# Altium footprint library DF40C-50DP-0P4V_51_.PcbLib: 3 footprints
Each footprint in its own frame and in the unit in brackets; x right, y up, seen from the top. Pads: shape width x height; smd on the part's side, far side on the other; paste and mask are expansions set on the pad; w line width, h text height; cw(c..) or ccw(c..) is an arc to the next point about the centre after c.
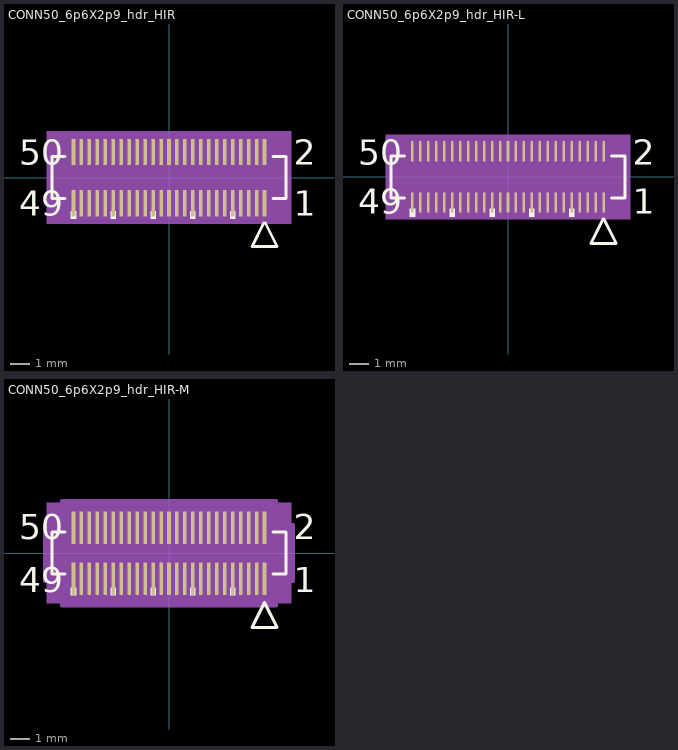
[diagram p0: the footprints below, top view; thin cyan lines are the x and y axes]

## CONN50_6p6X2p9_hdr_HIR [mil]
pads (50):
  rect 7x52 smd paste+0 mask+0: 1(188.98,-50.5) 2(188.98,50.5) 3(173.23,-50.5) 4(173.23,50.5) 5(157.48,-50.5) 6(157.48,50.5) 7(141.73,-50.5) 8(141.73,50.5) 9(125.98,-50.5) 10(125.98,50.5) 11(110.24,-50.5) 12(110.24,50.5) 13(94.49,-50.5) 14(94.49,50.5) 15(78.74,-50.5) 16(78.74,50.5) 17(62.99,-50.5) 18(62.99,50.5) 19(47.24,-50.5) 20(47.24,50.5) 21(31.5,-50.5) 22(31.5,50.5) 23(15.75,-50.5) 24(15.75,50.5) 25(0,-50.5) 26(0,50.5) 27(-15.75,-50.5) 28(-15.75,50.5) 29(-31.5,-50.5) 30(-31.5,50.5) 31(-47.24,-50.5) 32(-47.24,50.5) 33(-62.99,-50.5) 34(-62.99,50.5) 35(-78.74,-50.5) 36(-78.74,50.5) 37(-94.49,-50.5) 38(-94.49,50.5) 39(-110.24,-50.5) 40(-110.24,50.5) 41(-125.98,-50.5) 42(-125.98,50.5) 43(-141.73,-50.5) 44(-141.73,50.5) 45(-157.48,-50.5) 46(-157.48,50.5) 47(-173.23,-50.5) 48(-173.23,50.5) 49(-188.98,-50.5) 50(-188.98,50.5)
Top Overlay:
  region: 130.98,-66.5 120.98,-66.5 120.98,-81.5 130.98,-81.5
  region: 52.24,-66.5 42.24,-66.5 42.24,-81.5 52.24,-81.5
  region: -26.5,-66.5 -36.5,-66.5 -36.5,-81.5 -26.5,-81.5
  region: -105.24,-66.5 -115.24,-66.5 -115.24,-81.5 -105.24,-81.5
  region: -183.98,-66.5 -193.98,-66.5 -193.98,-81.5 -183.98,-81.5
  lines w6: -205.58,-41.5 -231.77,-41.5 -231.77,41.5 -205.58,41.5 ; 187.48,-89.6 163.98,-136.6 213.98,-136.6 190.48,-89.6 ; 205.58,-41.5 231.77,-41.5 231.77,41.5 205.58,41.5
  text "2" at 246.77,25.5 h50
  text "1" at 246.77,-75.5 h50
  text "50" at -296.77,25.5 h50
  text "49" at -296.77,-75.5 h50
Mechanical 5:
  region: 241.77,-91.5 -241.77,-91.5 -241.77,91.5 241.77,91.5
Mechanical 13:
  lines w1: -226.77,-36.5 226.77,-36.5 226.77,36.5 -226.77,36.5 -226.77,-36.5 ; 163.98,-136.6 188.98,-86.6 213.98,-136.6 163.98,-136.6
  text "2" at 246.77,25.5 h50
  text "1" at 246.77,-75.5 h50
  text "50" at -296.77,25.5 h50
  text "49" at -296.77,-75.5 h50
Mechanical 15:
  region: -202.48,-46.5 -236.77,-46.5 -236.77,46.5 -202.48,46.5 -202.48,86.5 202.48,86.5 202.48,46.5 236.77,46.5 236.77,-46.5 202.48,-46.5 202.48,-86.5 -202.48,-86.5
  region: 226.77,-36.5 -226.77,-36.5 -226.77,36.5 226.77,36.5
  lines w6: -236.77,-46.5 -236.77,46.5 -202.48,46.5 -202.48,86.5 202.48,86.5 202.48,46.5 236.77,46.5 236.77,-46.5 202.48,-46.5 202.48,-86.5 -202.48,-86.5 -202.48,-46.5 -236.77,-46.5
3D body "CONN50_6p6X2p9_hdr_HIR.step": height 50.79, standoff 0, extent -196.85,-66.18 196.85,65.79

## CONN50_6p6X2p9_hdr_HIR-L [mil]
pads (50):
  rect 5x40 smd paste+0 mask+0: 1(188.98,-50.5) 2(188.98,50.5) 3(173.23,-50.5) 4(173.23,50.5) 5(157.48,-50.5) 6(157.48,50.5) 7(141.73,-50.5) 8(141.73,50.5) 9(125.98,-50.5) 10(125.98,50.5) 11(110.24,-50.5) 12(110.24,50.5) 13(94.49,-50.5) 14(94.49,50.5) 15(78.74,-50.5) 16(78.74,50.5) 17(62.99,-50.5) 18(62.99,50.5) 19(47.24,-50.5) 20(47.24,50.5) 21(31.5,-50.5) 22(31.5,50.5) 23(15.75,-50.5) 24(15.75,50.5) 25(0,-50.5) 26(0,50.5) 27(-15.75,-50.5) 28(-15.75,50.5) 29(-31.5,-50.5) 30(-31.5,50.5) 31(-47.24,-50.5) 32(-47.24,50.5) 33(-62.99,-50.5) 34(-62.99,50.5) 35(-78.74,-50.5) 36(-78.74,50.5) 37(-94.49,-50.5) 38(-94.49,50.5) 39(-110.24,-50.5) 40(-110.24,50.5) 41(-125.98,-50.5) 42(-125.98,50.5) 43(-141.73,-50.5) 44(-141.73,50.5) 45(-157.48,-50.5) 46(-157.48,50.5) 47(-173.23,-50.5) 48(-173.23,50.5) 49(-188.98,-50.5) 50(-188.98,50.5)
Top Overlay:
  region: -183.98,-63.5 -193.98,-63.5 -193.98,-78.5 -183.98,-78.5
  region: -105.24,-63.5 -115.24,-63.5 -115.24,-78.5 -105.24,-78.5
  region: -26.5,-63.5 -36.5,-63.5 -36.5,-78.5 -26.5,-78.5
  region: 52.24,-63.5 42.24,-63.5 42.24,-78.5 52.24,-78.5
  region: 130.98,-63.5 120.98,-63.5 120.98,-78.5 130.98,-78.5
  lines w6: -204.58,-41.5 -231.77,-41.5 -231.77,41.5 -204.58,41.5 ; 187.98,-83.6 163.98,-131.6 213.98,-131.6 189.98,-83.6 ; 204.58,-41.5 231.77,-41.5 231.77,41.5 204.58,41.5
  text "49" at -296.77,-73.5 h50
  text "50" at -296.77,23.5 h50
  text "1" at 246.77,-73.5 h50
  text "2" at 246.77,23.5 h50
Mechanical 5:
  region: 241.77,-83.5 -241.77,-83.5 -241.77,83.5 241.77,83.5
Mechanical 13:
  lines w1: -226.77,-36.5 -226.77,36.5 226.77,36.5 226.77,-36.5 -226.77,-36.5 ; 163.98,-131.6 213.98,-131.6 188.98,-81.6 163.98,-131.6
  text "49" at -296.77,-73.5 h50
  text "50" at -296.77,23.5 h50
  text "1" at 246.77,-73.5 h50
  text "2" at 246.77,23.5 h50
Mechanical 15:
  region: 226.77,-36.5 -226.77,-36.5 -226.77,36.5 226.77,36.5
  region: -196.48,-40.5 -230.77,-40.5 -230.77,40.5 -196.48,40.5 -196.48,72.5 196.48,72.5 196.48,40.5 230.77,40.5 230.77,-40.5 196.48,-40.5 196.48,-72.5 -196.48,-72.5
  lines w6: -230.77,-40.5 -196.48,-40.5 -196.48,-72.5 196.48,-72.5 196.48,-40.5 230.77,-40.5 230.77,40.5 196.48,40.5 196.48,72.5 -196.48,72.5 -196.48,40.5 -230.77,40.5 -230.77,-40.5
3D body "CONN50_6p6X2p9_hdr_HIR.step": height 50.79, standoff 0, extent -196.85,-65.98 196.85,65.98

## CONN50_6p6X2p9_hdr_HIR-M [mil]
pads (50):
  rect 7x64 smd paste+0 mask+0: 1(188.98,-50.5) 2(188.98,50.5) 3(173.23,-50.5) 4(173.23,50.5) 5(157.48,-50.5) 6(157.48,50.5) 7(141.73,-50.5) 8(141.73,50.5) 9(125.98,-50.5) 10(125.98,50.5) 11(110.24,-50.5) 12(110.24,50.5) 13(94.49,-50.5) 14(94.49,50.5) 15(78.74,-50.5) 16(78.74,50.5) 17(62.99,-50.5) 18(62.99,50.5) 19(47.24,-50.5) 20(47.24,50.5) 21(31.5,-50.5) 22(31.5,50.5) 23(15.75,-50.5) 24(15.75,50.5) 25(0,-50.5) 26(0,50.5) 27(-15.75,-50.5) 28(-15.75,50.5) 29(-31.5,-50.5) 30(-31.5,50.5) 31(-47.24,-50.5) 32(-47.24,50.5) 33(-62.99,-50.5) 34(-62.99,50.5) 35(-78.74,-50.5) 36(-78.74,50.5) 37(-94.49,-50.5) 38(-94.49,50.5) 39(-110.24,-50.5) 40(-110.24,50.5) 41(-125.98,-50.5) 42(-125.98,50.5) 43(-141.73,-50.5) 44(-141.73,50.5) 45(-157.48,-50.5) 46(-157.48,50.5) 47(-173.23,-50.5) 48(-173.23,50.5) 49(-188.98,-50.5) 50(-188.98,50.5)
Top Overlay:
  region: 130.98,-68.5 120.98,-68.5 120.98,-83.5 130.98,-83.5
  region: 52.24,-68.5 42.24,-68.5 42.24,-83.5 52.24,-83.5
  region: -26.5,-68.5 -36.5,-68.5 -36.5,-83.5 -26.5,-83.5
  region: -105.24,-68.5 -115.24,-68.5 -115.24,-83.5 -105.24,-83.5
  region: -183.98,-68.5 -193.98,-68.5 -193.98,-83.5 -183.98,-83.5
  lines w6: -205.58,-41.5 -231.77,-41.5 -231.77,41.5 -205.58,41.5 ; 205.58,-41.5 231.77,-41.5 231.77,41.5 205.58,41.5 ; 163.98,-147.6 188.98,-97.6 213.98,-147.6 163.98,-147.6
  text "2" at 246.77,27.5 h50
  text "1" at 246.77,-77.5 h50
  text "50" at -296.77,27.5 h50
  text "49" at -296.77,-77.5 h50
Mechanical 5:
  region: 241.77,-99.5 -241.77,-99.5 -241.77,99.5 241.77,99.5
Mechanical 13:
  lines w1: -226.77,-36.5 226.77,-36.5 226.77,36.5 -226.77,36.5 -226.77,-36.5 ; 163.98,-147.6 188.98,-97.6 213.98,-147.6 163.98,-147.6
  text "2" at 246.77,27.5 h50
  text "1" at 246.77,-77.5 h50
  text "50" at -296.77,27.5 h50
  text "49" at -296.77,-77.5 h50
Mechanical 15:
  region: -212.48,-56.5 -246.77,-56.5 -246.77,56.5 -212.48,56.5 -212.48,104.5 212.48,104.5 212.48,56.5 246.77,56.5 246.77,-56.5 212.48,-56.5 212.48,-104.5 -212.48,-104.5
  region: 226.77,-36.5 -226.77,-36.5 -226.77,36.5 226.77,36.5
  lines w6: -246.77,-56.5 -246.77,56.5 -212.48,56.5 -212.48,104.5 212.48,104.5 212.48,56.5 246.77,56.5 246.77,-56.5 212.48,-56.5 212.48,-104.5 -212.48,-104.5 -212.48,-56.5 -246.77,-56.5
3D body "CONN50_6p6X2p9_hdr_HIR.step": height 50.79, standoff 0, extent -196.85,-65.98 196.85,65.98